# EAGLE library part TLC5940 (library EnigmaMon)
16-channel LED driver with dot-correction and grayscale PWM control
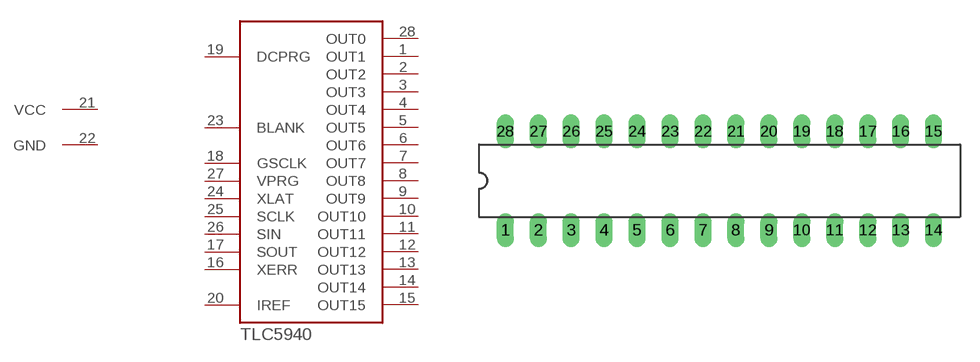
[diagram p7: symbol with the pads of DIL28-3; footprint DIL28-3]

Designator prefix -; gates G$1=TLC5940 G$2=VCC+GND

## TLC5940  [DIL28-3]
1  G$1:OUT1  out
2  G$1:OUT2  out
3  G$1:OUT3  out
4  G$1:OUT4  out
5  G$1:OUT5  out
6  G$1:OUT6  out
7  G$1:OUT7  out
8  G$1:OUT8  out
9  G$1:OUT9  out
10  G$1:OUT10  out
11  G$1:OUT11  out
12  G$1:OUT12  out
13  G$1:OUT13  out
14  G$1:OUT14  out
15  G$1:OUT15  out
16  G$1:XERR
17  G$1:SOUT
18  G$1:GSCLK
19  G$1:DCPRG
20  G$1:IREF
21  G$2:VCC  pwr
22  G$2:GND  pwr
23  G$1:BLANK
24  G$1:XLAT
25  G$1:SCLK
26  G$1:SIN
27  G$1:VPRG
28  G$1:OUT0  out

## Footprint DIL28-3 (pad centres in mm)
Dual In Line 0.3 inch
drill 0.813 long: 1 -16.51,-3.81; 2 -13.97,-3.81; 3 -11.43,-3.81; 4 -8.89,-3.81; 5 -6.35,-3.81; 6 -3.81,-3.81; 7 -1.27,-3.81; 8 1.27,-3.81; 9 3.81,-3.81; 10 6.35,-3.81; 11 8.89,-3.81; 12 11.43,-3.81; 13 13.97,-3.81; 14 16.51,-3.81; 15 16.51,3.81; 16 13.97,3.81; 17 11.43,3.81; 18 8.89,3.81; 19 6.35,3.81; 20 3.81,3.81; 21 1.27,3.81; 22 -1.27,3.81; 23 -3.81,3.81; 24 -6.35,3.81; 25 -8.89,3.81; 26 -11.43,3.81; 27 -13.97,3.81; 28 -16.51,3.81